# EAGLE library part E19R (library resistor-dil)
DUAL IN LINE RESITOR NETWORK
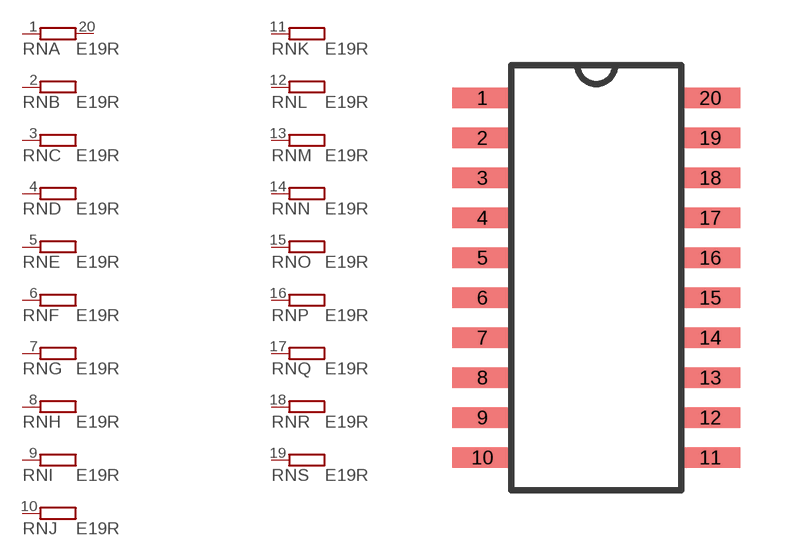
[diagram p11: symbol with the pads of SOMC20; footprint SOMC20]

Designator prefix RN; gates A=R1NV0 B=R1NVXX C=R1NVXX D=R1NVXX E=R1NVXX F=R1NVXX G=R1NVXX H=R1NVXX I=R1NVXX J=R1NVXX K=R1NVXX L=R1NVXX M=R1NVXX N=R1NVXX O=R1NVXX P=R1NVXX Q=R1NVXX R=R1NVXX S=R1NVXX

## E19RSOMC (OC_FARNELL: unknown; OC_NEWARK: unknown)  [SOMC20]
1  A:1  pas
2  B:1  pas
3  C:1  pas
4  D:1  pas
5  E:1  pas
6  F:1  pas
7  G:1  pas
8  H:1  pas
9  I:1  pas
10  J:1  pas
11  K:1  pas
12  L:1  pas
13  M:1  pas
14  N:1  pas
15  O:1  pas
16  P:1  pas
17  Q:1  pas
18  R:1  pas
19  S:1  pas
20  A:2  pas

## Footprint SOMC20 (pad centres in mm)
SOMC 20 Auto generated by make-symbol-device-package-bsdl.ulp Rev. 12 Source: www.vishay.com/docs/31508/somc.pdf
smd 1.91 x 0.64: 1 -3.62,5.715; 2 -3.62,4.445; 3 -3.62,3.175; 4 -3.62,1.905; 5 -3.62,0.635; 6 -3.62,-0.635; 7 -3.62,-1.905; 8 -3.62,-3.175; 9 -3.62,-4.445; 10 -3.62,-5.715; 11 3.62,-5.715; 12 3.62,-4.445; 13 3.62,-3.175; 14 3.62,-1.905; 15 3.62,-0.635; 16 3.62,0.635; 17 3.62,1.905; 18 3.62,3.175; 19 3.62,4.445; 20 3.62,5.715